# Altium integrated library TE Automotive Connectors (Car, Truck, Bus, and Off-Road).IntLib: 2 symbols
Pins are listed as number, name and electrical type; pins without a type are passive.

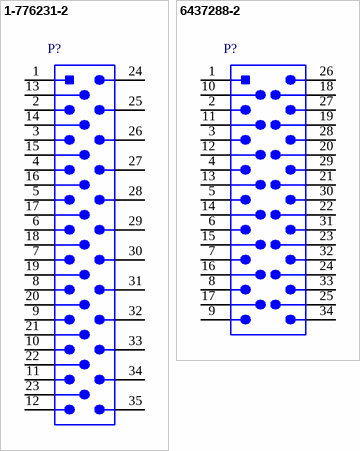
[diagram p0: symbols 1-776231-2 to 6437288-2]

## 1-776231-2
designator P?
Male, Pitch 4 mm,  35 Positions, Height 34.25 mm, -40 to 125 degC, RoHS, Bulk; 3D Model: 1-776231-2.pdf; Row Spacing: 0.157" (4.00mm); Connector Type: Header, Shrouded; Number of Positions Loaded: All; Number of Positions: 35; DatasheetVersion: Rev. A12; PackageReference: THD; PackageDescription: Male, Pitch 4 mm,  35 Positions, Height 34.25 mm; Supplier 1: Digi-Key; Supplier Part Number 1: 1-776231-2-ND; Standard Package: 220; Termination: Solder; Packaging: Bulk; Color: Natural; Contact Type: Male Pin; Number of Rows: 3; Fastening Type: Locking Ramp; RoHS Information: 1-776231-2 Statement of Compliance; Family: Rectangular Connectors - Headers, Male Pins; Series: AMPSEAL; Pitch: 0.157" (4.00mm); Contact Finish: Gold; Category: Connectors, Interconnects; Mounting Type: Panel Mount; Through Hole; ComponentLink1Description: Manufacturer URL; ComponentLink1URL: http://www.te.com; ComponentLink2Description: Datasheet; ComponentLink2URL: http://www.te.com/commerce/DocumentDelivery/DDEController?Action=showdoc&DocId=Customer+Drawing%7F776231%7FA12%7Fpdf%7FEnglish%7FENG_CD_776231_A12.pdf%7F1-776231-2
footprint TECO-1-776231-2_V (THD, 35-Leads, Body 76.9x32.1mm, Pitch 4mm)
pins: 1, 2, 3, 4, 5, 6, 7, 8, 9, 10, 11, 12, 13, 14, 15, 16, 17, 18, 19, 20, 21, 22, 23, 24, 25, 26, 27, 28, 29, 30, 31, 32, 33, 34, 35

## 6437288-2
designator P?
Male Header, Pitch 3 mm, 34 Positions, Height 27.9 mm, Tail Length 4 mm, -40 to 125 degC, RoHS, Tube; Number of Contacts: 34; DatasheetVersion: Rev. A1; PackageReference: THD; PackageDescription: Male Header, Pitch 3 mm, 34 Positions, Height 27.9 mm, Tail Length 4 mm; Supplier 1: Newark; Supplier Part Number 1: 99X8095; Supplier 2: Digi-Key; Supplier Part Number 2: 6437288-2-ND; Termination Method: Solder; Height: 27.9mm; Gender: Male; Number of Rows: 4; Housing Material: PET; Minimum Operating Temperature: -40°C; Type: Header; Series: Super Seal; Contact Material: Brass; Contact Plating: Gold over Nickel; Depth: 36.5mm; Mounting Type: Through Hole; Width: 45.5mm; Maximum Operating Temperature: +125°C; Mounting Technology: Through Hole; ComponentLink1Description: Manufacturer URL; ComponentLink1URL: http://www.te.com; ComponentLink2Description: Datasheet; ComponentLink2URL: http://www.te.com/commerce/DocumentDelivery/DDEController?Action=showdoc&DocId=Customer+Drawing%7F9-1437287-8%7FA1%7Fpdf%7FEnglish%7FENG_CD_9-1437287-8_A1.pdf%7F6437288-2
footprint TECO-6437288-2_V (THD, 34-Leads, Body 45.5x36.5mm, Pitch 3mm)
pins: 1, 2, 3, 4, 5, 6, 7, 8, 9, 10, 11, 12, 13, 14, 15, 16, 17, 18, 19, 20, 21, 22, 23, 24, 25, 26, 27, 28, 29, 30, 31, 32, 33, 34